# Altium schematic symbol library PLD2-8.Schlib: 1 symbol
Pins are listed as number, name and electrical type; pins without a type are passive.

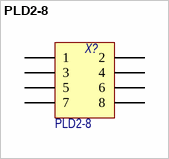
[diagram p0: symbol PLD2-8]

## PLD2-8
designator X?, comment Наименование: PLD2-8  (hidden comment: Header 2X8)
Header, 8-Pin, Dual row; Потребление, Вт: 0,0; Назначение: Header, 8-Pin, Dual row
footprint PLD2-8
pins: 1, 2, 3, 4, 5, 6, 7, 8